# Altium integrated library 600F270FT250XT.IntLib: 1 symbol
Pins are listed as number, name and electrical type; pins without a type are passive.

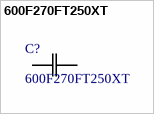
[diagram p0: symbol 600F270FT250XT]

## 600F270FT250XT
designator C?
No Description Available; Mfr_Name: American Technical Ceramics; Type: DEV; Copyright: Copyright (C) 2023 Ultra Librarian. All rights reserved.; Manufacturer_Part_Number: 600F270FT250XT; Digi-Key_Part_Number_1: 1284-1898-2-ND; Digi-Key_Part_Number_2: 1284-1898-1-ND; Digi-Key_Part_Number_3: 1284-1898-6-ND; RefDes: RefDes
footprint CAP_600F0R1AT250T_ATC-M
pins: 1, 2